# EAGLE library part OP727 (library Lin-Temp-Controller)
OP727 Dual Op Amp
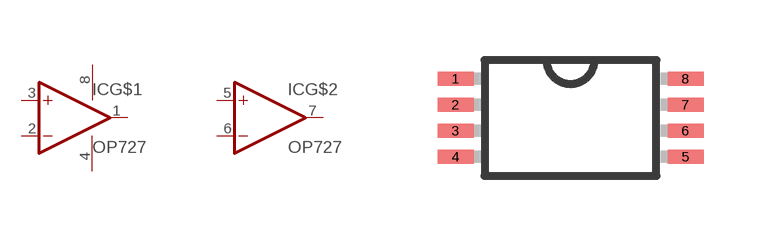
[diagram p6: symbol with the pads of TSSOP8; footprint TSSOP8]

Designator prefix IC; gates G$1=OPAMP G$2=OPAMP G$3=PWR+-

## OP727 (DIGIKEY: OP727ARUZ-ND)  [TSSOP8]
1  G$1:OUT  out
2  G$1:-IN  in
3  G$1:+IN  in
4  G$3:V-  pwr
5  G$2:+IN  in
6  G$2:-IN  in
7  G$2:OUT  out
8  G$3:V+  pwr

## Footprint TSSOP8 (pad centres in mm)
8 Lead Thin Shrink Small Outline Package (TSSOP8)
smd 0.9 x 0.35: 1 -2.875,0.975; 2 -2.875,0.325; 3 -2.875,-0.325; 4 -2.875,-0.975; 5 2.875,-0.975; 6 2.875,-0.325; 7 2.875,0.325; 8 2.875,0.975